# EAGLE library part MKRZERO (library madHaddr)
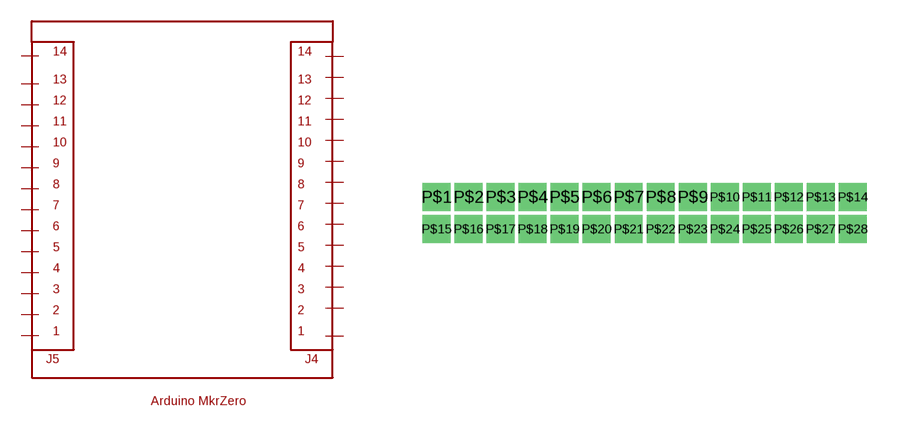
[diagram p5: symbol with the pads of MKRZERO; footprint MKRZERO]

Designator prefix -

## MKRZERO  [MKRZERO]
P$1  P$1
P$2  P$2
P$3  P$3
P$4  P$4
P$5  P$5
P$6  P$6
P$7  P$7
P$8  P$8
P$9  P$9
P$10  P$10
P$11  P$11
P$12  P$12
P$13  P$13
P$14  P$14
P$15  P$15
P$16  P$16
P$17  P$17
P$18  P$18
P$19  P$19
P$20  P$20
P$21  P$21
P$22  P$22
P$23  P$23
P$24  P$24
P$25  P$25
P$26  P$26
P$27  P$27
P$28  P$28

## Footprint MKRZERO (pad centres in mm)
drill 0.6 square: P$1 -25.4,1.27; P$2 -24.13,1.27; P$3 -22.86,1.27; P$4 -21.59,1.27; P$5 -20.32,1.27; P$6 -19.05,1.27; P$7 -17.78,1.27; P$8 -16.51,1.27; P$9 -15.24,1.27; P$10 -13.97,1.27; P$11 -12.7,1.27; P$12 -11.43,1.27; P$13 -10.16,1.27; P$14 -8.89,1.27; P$15 -25.4,0; P$16 -24.13,0; P$17 -22.86,0; P$18 -21.59,0; P$19 -20.32,0; P$20 -19.05,0; P$21 -17.78,0; P$22 -16.51,0; P$23 -15.24,0; P$24 -13.97,0; P$25 -12.7,0; P$26 -11.43,0; P$27 -10.16,0; P$28 -8.89,0